# Altium schematic symbol library SCH - MCU - ATTINY - MICROCHIP ATTINY20-MMH VQFN20.SchLib: 1 symbol
Pins are listed as number, name and electrical type; pins without a type are passive.

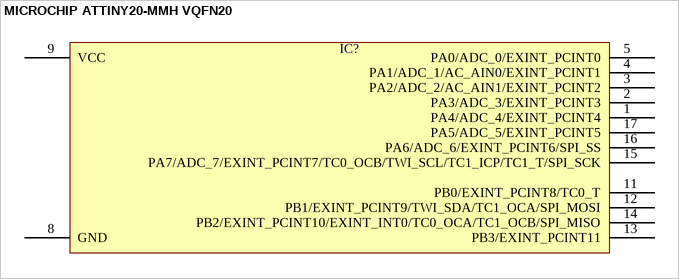
[diagram p0: symbol MICROCHIP ATTINY20-MMH VQFN20]

## MICROCHIP ATTINY20-MMH VQFN20
designator IC?  (value not drawn)
pins: 1 PA4/ADC_4/EXINT_PCINT4, 2 PA3/ADC_3/EXINT_PCINT3, 3 PA2/ADC_2/AC_AIN1/EXINT_PCINT2, 4 PA1/ADC_1/AC_AIN0/EXINT_PCINT1, 5 PA0/ADC_0/EXINT_PCINT0, 8 GND, 9 VCC, 11 PB0/EXINT_PCINT8/TC0_T, 12 PB1/EXINT_PCINT9/TWI_SDA/TC1_OCA/SPI_MOSI, 13 PB3/EXINT_PCINT11, 14 PB2/EXINT_PCINT10/EXINT_INT0/TC0_OCA/TC1_OCB/SPI_MISO, 15 PA7/ADC_7/EXINT_PCINT7/TC0_OCB/TWI_SCL/TC1_ICP/TC1_T/SPI_SCK, 16 PA6/ADC_6/EXINT_PCINT6/SPI_SS, 17 PA5/ADC_5/EXINT_PCINT5